# EAGLE library part NRJ6HH-1 (library con_neutrik_ag__Jack6,35)
1/4" stereo jack, switched, half threaded nose, sleeve contact/front panel connection Horizontal PCB panel mount jack featuring high board packing density by mounting on 15.88 mm (0.625 inch) minimum centers in rows or arrays. Mounting hardware must be ordered separately.
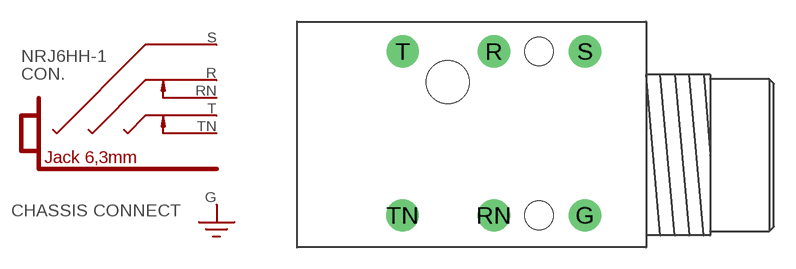
[diagram p2: symbol with the pads of NRJ6HH-1; footprint NRJ6HH-1]

Designator prefix CON; gates .=N*J5** CHASSIS_CONNECT=CASSIS_CONNECT

## NRJ6HH-1  [NRJ6HH-1]
G  CHASSIS_CONNECT:G  pas
R  .:R  pas
RN  .:RN  pas
S  .:S  pas
T  .:T  pas
TN  .:TN  pas

## Footprint NRJ6HH-1 (pad centres in mm)
drill 1.5 round: G -4.25,-4.2; R -10.6,7.23; RN -10.6,-4.2; S -4.25,7.23; T -16.94,7.23; TN -16.95,-4.2
hole 3 at -13.8,5.1
hole 2 at -7.45,-4.2
hole 2 at -7.45,7.23